# Altium footprint library PCB_V1.PcbLib: 25 footprints (part 2 of 2)
Each footprint in its own frame and in the unit in brackets; x right, y up, seen from the top. Pads: shape width x height; smd on the part's side, far side on the other; paste and mask are expansions set on the pad; w line width, h text height; cw(c..) or ccw(c..) is an arc to the next point about the centre after c.
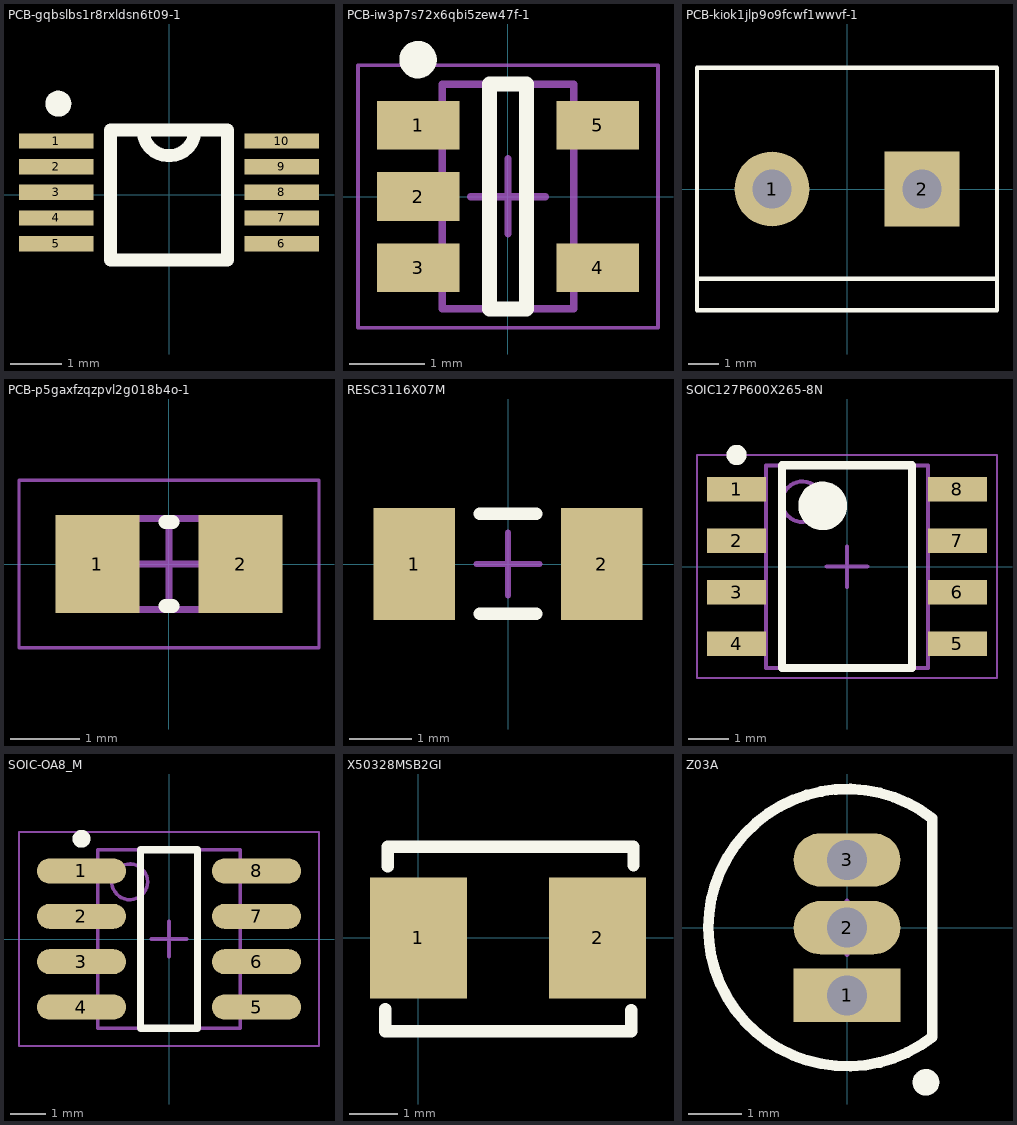
[diagram p1: the footprints below, top view; thin cyan lines are the x and y axes]

## PCB-gqbslbs1r8rxldsn6t09-1 [mm]
pads (10):
  rect 1.45x0.3 smd: 1(-2.2,1.05) 2(-2.2,0.55) 3(-2.2,0.05) 4(-2.2,-0.45) 5(-2.2,-0.95) 6(2.2,-0.95) 7(2.2,-0.45) 8(2.2,0.05) 9(2.2,0.55) 10(2.2,1.05)
Top Overlay:
  circle w0.254: c-2.159,1.778 r0.127
  lines w0.254: -0.508,1.27 ccw(c0,1.27) 0.508,1.27 ; -1.143,-1.27 -1.143,1.27 1.143,1.27 1.143,-1.27 -1.143,-1.27
3D body "ads1115idgst.stp": height 1.23, standoff 0, extent -2.534,-1.5 2.535,1.5

## PCB-iw3p7s72x6qbi5zew47f-1 [mm]
pads (5):
  rect 1.1x0.65 smd: 1(-1.2,0.95) 2(-1.2,0) 3(-1.2,-0.95) 4(1.2,-0.95) 5(1.2,0.95)
Top Overlay:
  circle w0.25: c-1.2,1.825 r0.125
  lines w0.2: -0.25,-1.5 -0.25,1.5 0.25,1.5 0.25,-1.5 -0.25,-1.5
Mechanical 13:
  lines w0.1: -0.875,-1.5 0.875,-1.5 0.875,1.5 -0.875,1.5 -0.875,-1.5
Mechanical 15:
  lines w0.05: -2,-1.75 2,-1.75 2,1.75 -2,1.75 -2,-1.75
  lines w0.1: -0.5,0 0.5,0 ; 0,-0.5 0,0.5
3D body: height 1.45, standoff 0, extent -0.875,-1.5 0.875,1.5

## PCB-kiok1jlp9o9fcwf1wwvf-1 [mm]
pads (2):
  round 2.5 hole 1.3: 1(-2.5,0)
  rect 2.5x2.5 hole 1.3: 2(2.5,0)
Top Overlay:
  lines w0.15: -5,-3 5,-3 ; -5,-4.05 -5,4.05 5,4.05 5,-4.05 -5,-4.05
3D body "1729018.stp": height 10, standoff -3.5, extent -5.57,-4.075 5,4.075

## PCB-p5gaxfzqzpvl2g018b4o-1 [mm]
pads (2):
  rect 1.2x1.4 smd: 1(-1.025,0) 2(1.025,0)
Top Overlay:
  lines w0.2: -0.05,-0.6 0.05,-0.6 ; -0.05,0.6 0.05,0.6
Mechanical 13:
  lines w0.1: -1.075,-0.65 -1.075,0.65 1.075,0.65 1.075,-0.65 -1.075,-0.65
Mechanical 15:
  lines w0.05: -2.15,-1.2 -2.15,1.2 2.15,1.2 2.15,-1.2 -2.15,-1.2
  lines w0.1: -0.5,0 0.5,0 ; 0,-0.5 0,0.5
3D body "User Library-RES_2013-0805.STEP": height 0.76, standoff 0, extent -1.15,-0.675 1.15,0.675
3D body: height 0.65, standoff 0, extent -1.075,-0.65 -0.775,0.65
3D body: height 0.65, standoff 0, extent 0.775,-0.65 1.075,0.65

## RESC3116X07M [mm]
pads (2):
  rect 1.3x1.8 smd: 1(-1.5,0) 2(1.5,0)
Top Overlay:
  lines w0.2: -0.45,-0.8 0.45,-0.8 ; -0.45,0.8 0.45,0.8
Mechanical 15:
  lines w0.1: -0.5,0 0.5,0 ; 0,-0.5 0,0.5
3D body "User Library-YAGEO RC1206.STEP": height 0.52, standoff -0.03, extent -1.55,-0.8 1.55,0.8

## SOIC127P600X265-8N [mm]
pads (8):
  rect 1.45x0.6 smd: 1(-2.725,1.905) 2(-2.725,0.635) 3(-2.725,-0.635) 4(-2.725,-1.905) 5(2.725,-1.905) 6(2.725,-0.635) 7(2.725,0.635) 8(2.725,1.905)
Top Overlay:
  circle w0.25: c-2.725,2.755 r0.125
  circle w0.6: c-0.6,1.5 r0.3
  lines w0.2: -1.6,-2.5 -1.6,2.5 1.6,2.5 1.6,-2.5 -1.6,-2.5
Mechanical 13:
  circle w0.1: c-1.1,1.6 r0.5
  lines w0.1: -2,-2.5 -2,2.5 2,2.5 2,-2.5 -2,-2.5
Mechanical 15:
  lines w0.05: -3.7,-2.75 -3.7,2.75 3.7,2.75 3.7,-2.75 -3.7,-2.75
  lines w0.1: -0.5,0 0.5,0 ; 0,-0.5 0,0.5
3D body: height 2.65, standoff 0.25, extent -2,-2.5 2,2.5

## SOIC-OA8_M [mm]
pads (8):
  oval 2.5x0.7 smd: 1(-2.45,1.905) 2(-2.45,0.635) 3(-2.45,-0.635) 4(-2.45,-1.905) 5(2.45,-1.905) 6(2.45,-0.635) 7(2.45,0.635) 8(2.45,1.905)
Top Overlay:
  circle w0.25: c-2.45,2.805 r0.125
  lines w0.2: -0.8,-2.5 0.8,-2.5 0.8,2.5 -0.8,2.5 -0.8,-2.5
Mechanical 13:
  circle w0.1: c-1.1,1.6 r0.5
  lines w0.1: -2,-2.5 2,-2.5 2,2.5 -2,2.5 -2,-2.5
Mechanical 15:
  lines w0.05: -4.2,-3 4.2,-3 4.2,3 -4.2,3 -4.2,-3
  lines w0.1: -0.5,0 0.5,0 ; 0,-0.5 0,0.5
3D body "User Library-SOIC-8-1.step": height 1.75, standoff 0, extent -3,-2.45 3,2.45

## X50328MSB2GI [mm] "8MHz ±10ppm 20pF 60O ~ 80O SMD-5032_2P SMD Crystal Resonators RoHS"
height 2
pads (2):
  rect 2x2.5 smd: 1(0,0) 2(3.7,0)
Top Overlay:
  lines w0.254: -0.686,-1.473 -0.686,-1.93 4.394,-1.93 4.394,-1.499 ; -0.635,1.473 -0.635,1.88 4.445,1.88 4.445,1.499
3D body "ABM3.STEP": height 1.3, standoff 0, extent -0.646,-1.6 4.354,1.6

## Z03A [mm]
pads (3):
  rect 2x1 hole 0.75: 1(0,-1.27)
  oval 2x1 hole 0.75: 2(0,0) 3(0,1.27)
Top Overlay:
  circle w0.25: c1.48,-2.9 r0.125
  lines w0.2: 1.601,-2.049 cw(c0,0) 1.601,2.049 1.6,-2.049
Mechanical 13:
  lines w0.1: 1.601,-2.049 cw(c0,0) 1.601,2.049 1.6,-2.049
Mechanical 15:
  lines w0.1: -0.5,0 0.5,0 ; 0,-0.5 0,0.5
3D body: height 5.2, standoff 0, extent -2.599,-2.611 1.6,2.611